# Altium footprint library 6106 RC522门禁卡.PcbLib: 19 footprints (part 2 of 2)
Each footprint in its own frame and in the unit in brackets; x right, y up, seen from the top. Pads: shape width x height; smd on the part's side, far side on the other; paste and mask are expansions set on the pad; w line width, h text height; cw(c..) or ccw(c..) is an arc to the next point about the centre after c.
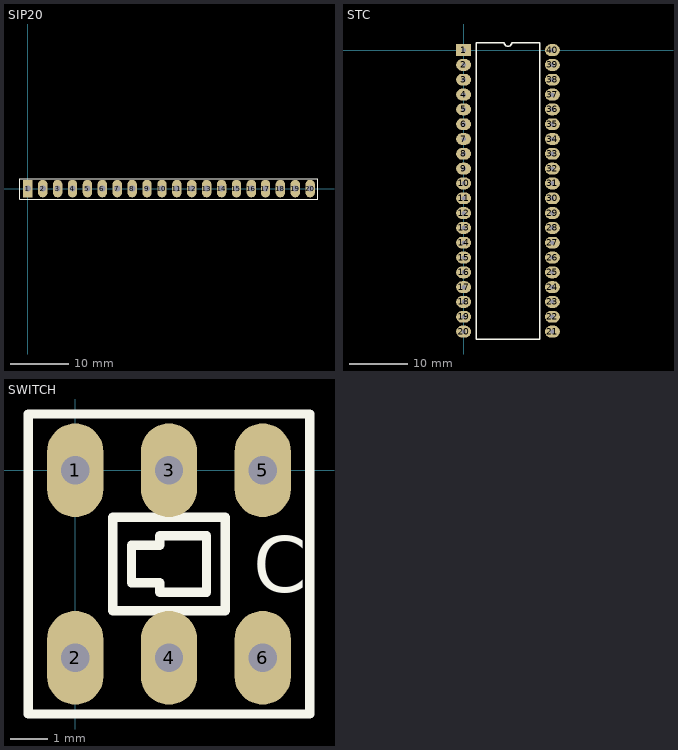
[diagram p1: the footprints below, top view; thin cyan lines are the x and y axes]

## SIP20 [mm]
pads (20):
  rect 1.6x3 hole 1.067: 1(0,0)
  oval 1.6x3 hole 1.067: 2(2.54,0) 3(5.08,0) 4(7.62,0) 5(10.16,0) 6(12.7,0) 7(15.24,0) 8(17.78,0) 9(20.32,0) 10(22.86,0) 11(25.4,0) 12(27.94,0) 13(30.48,0) 14(33.02,0) 15(35.56,0) 16(38.1,0) 17(40.5,0) 18(43.04,0) 19(45.58,0) 20(48.12,0)
Top Overlay:
  lines w0.127: -1.35,-1.804 -1.35,1.663 49.407,1.663 49.407,-1.804 -1.35,-1.804

## STC [mil]
pads (40):
  rect 100x80 hole 30: 1(0,0)
  oval 100x80 hole 30: 2(0,-100) 3(0,-200) 4(0,-300) 5(0,-400) 6(0,-500) 7(0,-600) 8(0,-700) 9(0,-800) 10(0,-900) 11(0,-1000) 12(0,-1100) 13(0,-1200) 14(0,-1300) 15(0,-1400) 16(0,-1500) 17(0,-1600) 18(0,-1700) 19(0,-1800) 20(0,-1900) 21(600,-1900) 22(600,-1800) 23(600,-1700) 24(600,-1600) 25(600,-1500) 26(600,-1400) 27(600,-1300) 28(600,-1200) 29(600,-1100) 30(600,-1000) 31(600,-900) 32(600,-800) 33(600,-700) 34(600,-600) 35(600,-500) 36(600,-400) 37(600,-300) 38(600,-200) 39(600,-100) 40(600,0)
Top Overlay:
  lines w10: 85,-1950 515,-1950 515,50 325,50 cw(c300,50) 275,50 85,50 85,-1950

## SWITCH [mil]
pads (6):
  oval 60x100 hole 30: 1(0,0) 2(0,-200) 3(100,0) 4(100,-200) 5(200,0) 6(200,-200)
Top Overlay:
  lines w10: -50,-260 250,-260 250,60 -50,60 -50,-200 -50,-260 ; 40,-150 160,-150 160,-50 40,-50 40,-150 ; 60,-120 90,-120 90,-130 140,-130 140,-70 90,-70 90,-80 60,-80 60,-120
  text "C" at 190,-130 h60